# Altium footprint library stepperPCB.PcbLib: 1 footprints
Each footprint in its own frame and in the unit in brackets; x right, y up, seen from the top. Pads: shape width x height; smd on the part's side, far side on the other; paste and mask are expansions set on the pad; w line width, h text height; cw(c..) or ccw(c..) is an arc to the next point about the centre after c.
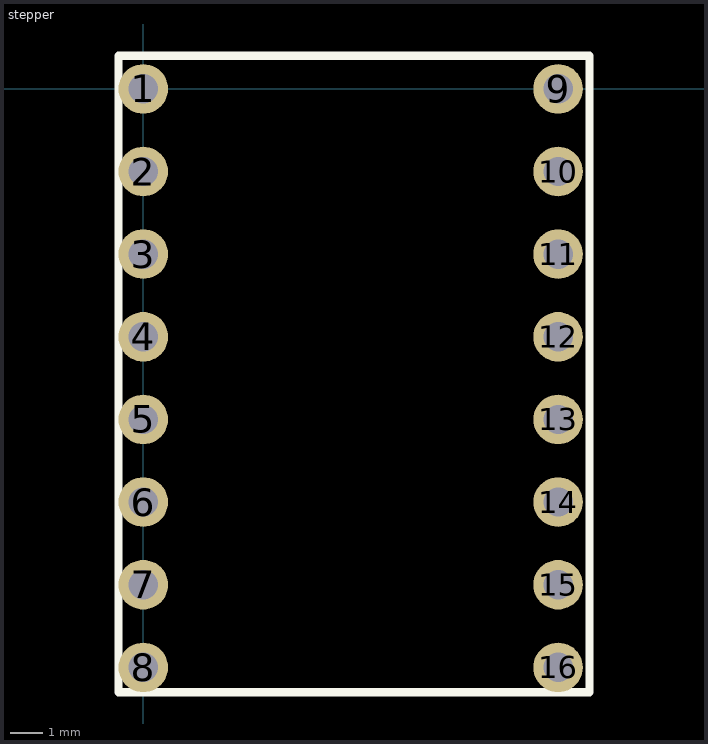
[diagram p0: the footprint, top view; thin cyan lines are the x and y axes]

## stepper [mil]
pads (16):
  round 60 hole 35.43: 1(0,0) 2(0,-100) 3(0,-200) 4(0,-300) 5(0,-400) 6(0,-500) 7(0,-600) 8(0,-700) 9(502,0) 10(502,-100) 11(502,-200) 12(502,-300) 13(502,-400) 14(502,-500) 15(502,-600) 16(502,-700)
Top Overlay:
  lines w10: -30,-730 540,-730 540,40 -30,40 -30,-700 -30,-730